# Altium footprint library WR-TBL_Spring Clamp_2.54mm.PcbLib: 12 footprints
Each footprint in its own frame and in the unit in brackets; x right, y up, seen from the top. Pads: shape width x height; smd on the part's side, far side on the other; paste and mask are expansions set on the pad; w line width, h text height; cw(c..) or ccw(c..) is an arc to the next point about the centre after c.
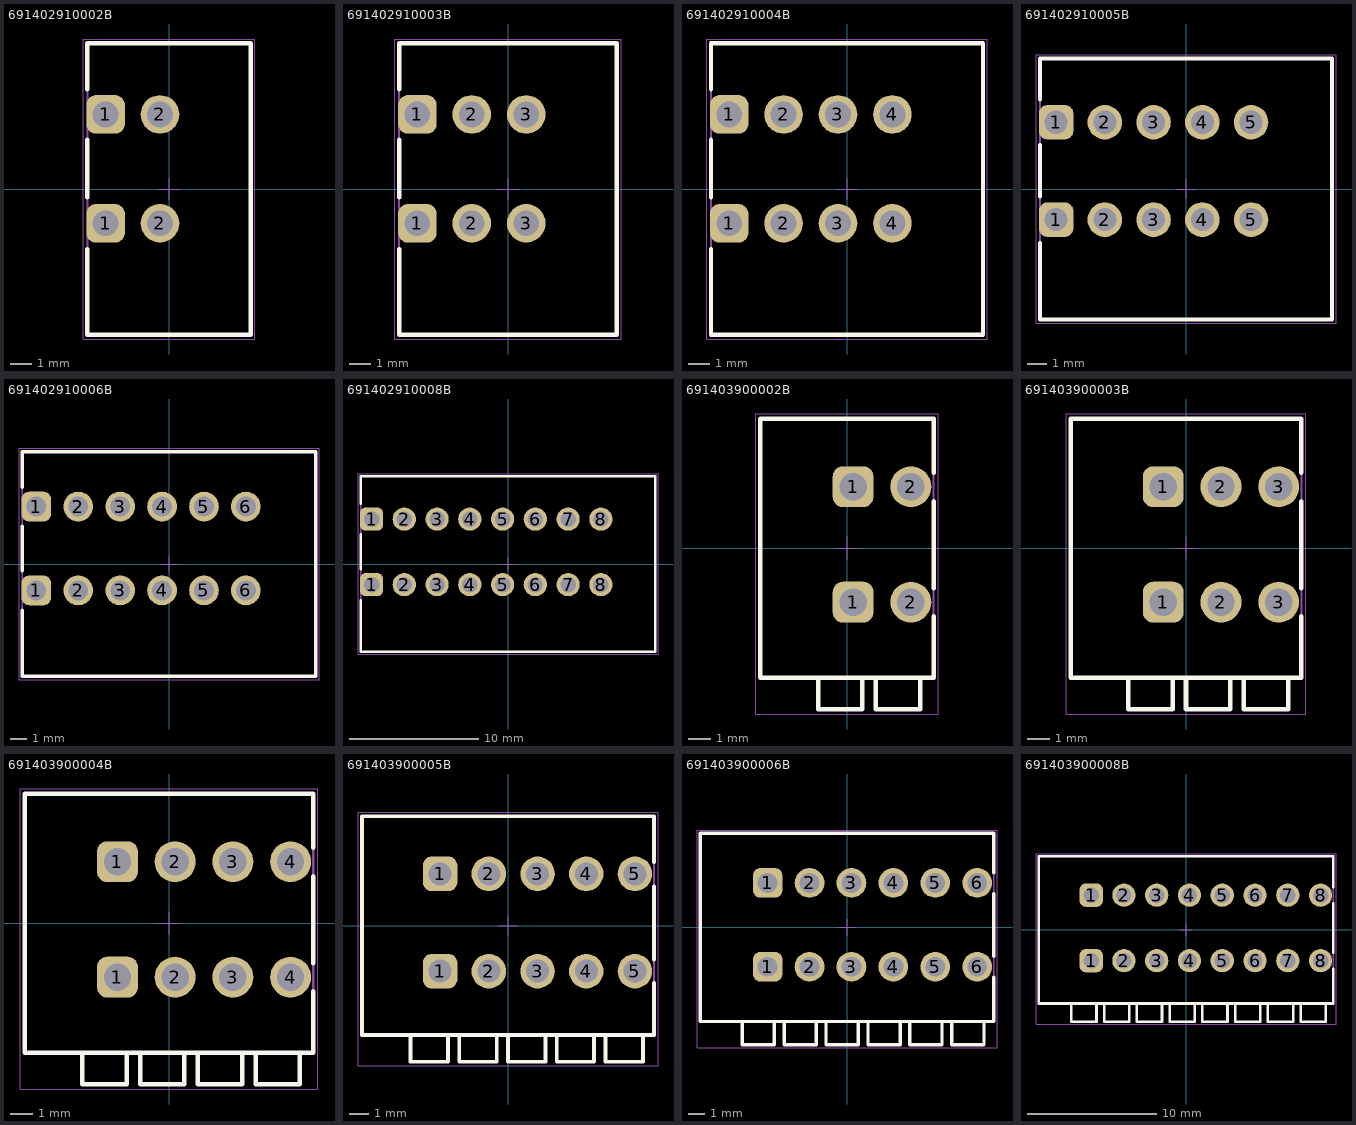
[diagram p0: the footprints below, top view; thin cyan lines are the x and y axes]

## 691402910002B [mm] "2.54 mm - Screwless Horizontal Entry - 02p"
height 12.8
pads (4):
  rrect50% 1.8x1.8 hole 1.2: 1(-2.96,-1.6) 1(-2.96,3.48)
  round 1.8 hole 1.2: 2(-0.42,-1.6) 2(-0.42,3.48)
Top Overlay:
  lines w0.2: -3.81,-2.8 -3.81,-6.8 3.81,-6.8 3.81,6.8 -3.81,6.8 -3.81,4.66 ; -3.81,-0.4 -3.81,2.3
Top Designator:
  text ".Designator" at -7.498,-0.5 h1.5
Top Component Outline:
  lines w0.1: -3.81,-6.8 -3.81,6.8 3.81,6.8 3.81,-6.8 -3.81,-6.8
Top 3D Body:
  lines w0.1: -3.81,-6.8 3.81,-6.8 3.81,6.8 -3.81,6.8 -3.81,-6.8
Top Courtyard:
  lines w0.05: -4.01,-7 4.01,-7 4.01,7 -4.01,7 -4.01,-7
Top Component Center:
  lines w0.05: -0.5,0 0.5,0 ; 0,-0.5 0,0.5
3D body "691402910002B.stp": height 12.64, standoff -3.45, extent -3.81,-6.8 3.81,6.8

## 691402910003B [mm] "2.54 mm - Screwless Horizontal Entry - 03p"
height 12.8
pads (6):
  rrect50% 1.8x1.8 hole 1.2: 1(-4.23,-1.6) 1(-4.23,3.48)
  round 1.8 hole 1.2: 2(-1.69,-1.6) 2(-1.69,3.48) 3(0.85,-1.6) 3(0.85,3.48)
Top Overlay:
  lines w0.2: -5.08,-2.8 -5.08,-6.8 5.08,-6.8 5.08,6.8 -5.08,6.8 -5.08,4.66 ; -5.08,-0.4 -5.08,2.3
Top Designator:
  text ".Designator" at -7.498,-0.5 h1.5
Top Component Outline:
  lines w0.1: -5.08,-6.8 5.08,-6.8 5.08,6.8 -5.08,6.8 -5.08,-6.8
Top 3D Body:
  lines w0.1: -5.08,-6.8 -5.08,6.8 5.08,6.8 5.08,-6.8 -5.08,-6.8
Top Courtyard:
  lines w0.05: -5.28,-7 -5.28,7 5.28,7 5.28,-7 -5.28,-7
Top Component Center:
  lines w0.05: -0.5,0 0.5,0 ; 0,-0.5 0,0.5
3D body "691402910003B.stp": height 12.64, standoff -3.45, extent -5.08,-6.8 5.08,6.8

## 691402910004B [mm] "2.54 mm - Screwless Horizontal Entry - 04p"
height 12.8
pads (8):
  rrect50% 1.8x1.8 hole 1.2: 1(-5.5,-1.6) 1(-5.5,3.48)
  round 1.8 hole 1.2: 2(-2.96,-1.6) 2(-2.96,3.48) 3(-0.42,-1.6) 3(-0.42,3.48) 4(2.12,-1.6) 4(2.12,3.48)
Top Overlay:
  lines w0.2: -6.35,-2.8 -6.35,-6.8 6.35,-6.8 6.35,6.8 -6.35,6.8 -6.35,4.66 ; -6.35,-0.4 -6.35,2.3
Top Designator:
  text ".Designator" at -7.498,-0.5 h1.5
Top Component Outline:
  lines w0.1: -6.35,-6.8 -6.35,6.8 6.35,6.8 6.35,-6.8 -6.35,-6.8
Top 3D Body:
  lines w0.1: -6.35,-6.8 6.35,-6.8 6.35,6.8 -6.35,6.8 -6.35,-6.8
Top Courtyard:
  lines w0.05: -6.55,-7 6.55,-7 6.55,7 -6.55,7 -6.55,-7
Top Component Center:
  lines w0.05: -0.5,0 0.5,0 ; 0,-0.5 0,0.5
3D body "691402910004B.stp": height 12.64, standoff -3.45, extent -6.35,-6.8 6.35,6.8

## 691402910005B [mm] "2.54 mm - Screwless Horizontal Entry - 05p"
height 12.8
pads (10):
  rrect50% 1.8x1.8 hole 1.2: 1(-6.77,-1.6) 1(-6.77,3.48)
  round 1.8 hole 1.2: 2(-4.23,-1.6) 2(-4.23,3.48) 3(-1.69,-1.6) 3(-1.69,3.48) 4(0.85,-1.6) 4(0.85,3.48) 5(3.39,-1.6) 5(3.39,3.48)
Top Overlay:
  lines w0.2: -7.62,-2.8 -7.62,-6.8 7.62,-6.8 7.62,6.8 -7.62,6.8 -7.62,4.66 ; -7.62,-0.4 -7.62,2.3
Top Designator:
  text ".Designator" at -7.498,-0.5 h1.5
Top Component Outline:
  lines w0.1: -7.62,-6.8 7.62,-6.8 7.62,6.8 -7.62,6.8 -7.62,-6.8
Top 3D Body:
  lines w0.1: -7.62,-6.8 -7.62,6.8 7.62,6.8 7.62,-6.8 -7.62,-6.8
Top Courtyard:
  lines w0.05: -7.82,-7 -7.82,7 7.82,7 7.82,-7 -7.82,-7
Top Component Center:
  lines w0.05: -0.5,0 0.5,0 ; 0,-0.5 0,0.5
3D body "691402910005B.stp": height 12.64, standoff -3.45, extent -7.62,-6.8 7.62,6.8

## 691402910006B [mm] "2.54 mm - Screwless Horizontal Entry - 06p"
height 12.8
pads (12):
  rrect50% 1.8x1.8 hole 1.2: 1(-8.04,-1.6) 1(-8.04,3.48)
  round 1.8 hole 1.2: 2(-5.5,-1.6) 2(-5.5,3.48) 3(-2.96,-1.6) 3(-2.96,3.48) 4(-0.42,-1.6) 4(-0.42,3.48) 5(2.12,-1.6) 5(2.12,3.48) 6(4.66,-1.6) 6(4.66,3.48)
Top Overlay:
  lines w0.2: -8.89,-2.8 -8.89,-6.8 8.89,-6.8 8.89,6.8 -8.89,6.8 -8.89,4.66 ; -8.89,-0.4 -8.89,2.3
Top Designator:
  text ".Designator" at -7.498,-0.5 h1.5
Top Component Outline:
  lines w0.1: -8.89,-6.8 -8.89,6.8 8.89,6.8 8.89,-6.8 -8.89,-6.8
Top 3D Body:
  lines w0.1: -8.89,-6.8 8.89,-6.8 8.89,6.8 -8.89,6.8 -8.89,-6.8
Top Courtyard:
  lines w0.05: -9.09,-7 9.09,-7 9.09,7 -9.09,7 -9.09,-7
Top Component Center:
  lines w0.05: -0.5,0 0.5,0 ; 0,-0.5 0,0.5
3D body "691402910006B.stp": height 12.64, standoff -3.45, extent -8.89,-6.8 8.89,6.8

## 691402910008B [mm] "2.54 mm - Screwless Horizontal Entry - 08p"
height 12.8
pads (16):
  rrect50% 1.8x1.8 hole 1.2: 1(-10.58,-1.6) 1(-10.58,3.48)
  round 1.8 hole 1.2: 2(-8.04,-1.6) 2(-8.04,3.48) 3(-5.5,-1.6) 3(-5.5,3.48) 4(-2.96,-1.6) 4(-2.96,3.48) 5(-0.42,-1.6) 5(-0.42,3.48) 6(2.12,-1.6) 6(2.12,3.48) 7(4.66,-1.6) 7(4.66,3.48) 8(7.2,-1.6) 8(7.2,3.48)
Top Overlay:
  lines w0.2: -11.43,-2.8 -11.43,-6.8 11.43,-6.8 11.43,6.8 -11.43,6.8 -11.43,4.66 ; -11.43,-0.4 -11.43,2.3
Top Designator:
  text ".Designator" at -7.498,-0.5 h1.5
Top Component Outline:
  lines w0.1: -11.43,-6.8 11.43,-6.8 11.43,6.8 -11.43,6.8 -11.43,-6.8
Top 3D Body:
  lines w0.1: -11.43,-6.8 -11.43,6.8 11.43,6.8 11.43,-6.8 -11.43,-6.8
Top Courtyard:
  lines w0.05: -11.63,-7 -11.63,7 11.63,7 11.63,-7 -11.63,-7
Top Component Center:
  lines w0.05: -0.5,0 0.5,0 ; 0,-0.5 0,0.5
3D body "691402910008B.stp": height 12.64, standoff -3.45, extent -11.43,-6.8 11.43,6.8

## 691403900002B [mm] "2,54mm - Spring clamp/Screwless - Vertical wire entry - 02p"
height 13.6
pads (4):
  rrect50% 1.8x1.8 hole 1.2: 1(0.27,-2.38) 1(0.27,2.7)
  round 1.8 hole 1.2: 2(2.81,-2.38) 2(2.81,2.7)
Top Overlay:
  lines w0.2: -1.27,-5.7 -1.27,-7.1 0.68,-7.1 0.68,-5.7 ; 1.27,-5.7 1.27,-7.1 3.22,-7.1 3.22,-5.7 ; 3.81,-3 3.81,-5.7 -3.81,-5.7 -3.81,5.7 3.81,5.7 3.81,3.32 ; 3.81,-1.76 3.81,2.05
Top Designator:
  text ".Designator" at -7.498,-0.5 h1.5
Top Component Outline:
  lines w0.1: -1.27,-5.7 -1.27,-7.1 0.68,-7.1 0.68,-5.7 ; 1.27,-5.7 1.27,-7.1 3.22,-7.1 3.22,-5.7 ; -3.81,-5.7 3.81,-5.7 3.81,5.7 -3.81,5.7 -3.81,-5.7
Top 3D Body:
  lines w0.1: -1.27,-5.7 -1.27,-7.1 0.68,-7.1 0.68,-5.7 ; 1.27,-5.7 1.27,-7.1 3.22,-7.1 3.22,-5.7 ; -3.81,-5.7 -3.81,5.7 3.81,5.7 3.81,-5.7 -3.81,-5.7
Top Courtyard:
  lines w0.05: -4.01,-7.3 -4.01,5.9 4.01,5.9 4.01,-7.3 -4.01,-7.3
Top Component Center:
  lines w0.05: -0.5,0 0.5,0 ; 0,-0.5 0,0.5
3D body "691403900002B (rev1).stp": height 13.65, standoff -3.45, extent -3.81,-7.1 3.81,5.7

## 691403900003B [mm] "2,54mm - Spring clamp/Screwless - Vertical wire entry - 03p"
height 13.6
pads (6):
  rrect50% 1.8x1.8 hole 1.2: 1(-1,-2.38) 1(-1,2.7)
  round 1.8 hole 1.2: 2(1.54,-2.38) 2(1.54,2.7) 3(4.08,-2.38) 3(4.08,2.7)
Top Overlay:
  lines w0.2: -2.54,-5.7 -2.54,-7.1 -0.59,-7.1 -0.59,-5.7 ; 0,-5.7 0,-7.1 1.95,-7.1 1.95,-5.7 ; 2.54,-5.7 2.54,-7.1 4.49,-7.1 4.49,-5.7 ; 5.08,-3 5.08,-5.7 -5.08,-5.7 -5.08,5.7 5.08,5.7 5.08,3.32 ; 5.08,-1.76 5.08,2.05
Top Designator:
  text ".Designator" at -7.498,-0.5 h1.5
Top Component Outline:
  lines w0.1: -2.54,-5.7 -2.54,-7.1 -0.59,-7.1 -0.59,-5.7 ; 0,-5.7 0,-7.1 1.95,-7.1 1.95,-5.7 ; 2.54,-5.7 2.54,-7.1 4.49,-7.1 4.49,-5.7 ; -5.08,-5.7 -5.08,5.7 5.08,5.7 5.08,-5.7 -5.08,-5.7
Top 3D Body:
  lines w0.1: -2.54,-5.7 -2.54,-7.1 -0.59,-7.1 -0.59,-5.7 ; 0,-5.7 0,-7.1 1.95,-7.1 1.95,-5.7 ; 2.54,-5.7 2.54,-7.1 4.49,-7.1 4.49,-5.7 ; -5.08,-5.7 5.08,-5.7 5.08,5.7 -5.08,5.7 -5.08,-5.7
Top Courtyard:
  lines w0.05: -5.28,-7.3 5.28,-7.3 5.28,5.9 -5.28,5.9 -5.28,-7.3
Top Component Center:
  lines w0.05: -0.5,0 0.5,0 ; 0,-0.5 0,0.5
3D body "691403900003B.stp": height 13.65, standoff -3.45, extent -5.08,-7.1 5.08,5.7

## 691403900004B [mm] "2,54mm - Spring clamp/Screwless - Vertical wire entry - 04p"
height 13.6
pads (8):
  rrect50% 1.8x1.8 hole 1.2: 1(-2.27,-2.38) 1(-2.27,2.7)
  round 1.8 hole 1.2: 2(0.27,-2.38) 2(0.27,2.7) 3(2.81,-2.38) 3(2.81,2.7) 4(5.35,-2.38) 4(5.35,2.7)
Top Overlay:
  lines w0.2: -3.81,-5.7 -3.81,-7.1 -1.86,-7.1 -1.86,-5.7 ; -1.27,-5.7 -1.27,-7.1 0.68,-7.1 0.68,-5.7 ; 1.27,-5.7 1.27,-7.1 3.22,-7.1 3.22,-5.7 ; 3.81,-5.7 3.81,-7.1 5.76,-7.1 5.76,-5.7 ; 6.35,-3 6.35,-5.7 -6.35,-5.7 -6.35,5.7 6.35,5.7 6.35,3.32 ; 6.35,-1.76 6.35,2.05
Top Designator:
  text ".Designator" at -7.498,-0.5 h1.5
Top Component Outline:
  lines w0.1: -3.81,-5.7 -3.81,-7.1 -1.86,-7.1 -1.86,-5.7 ; -1.27,-5.7 -1.27,-7.1 0.68,-7.1 0.68,-5.7 ; 1.27,-5.7 1.27,-7.1 3.22,-7.1 3.22,-5.7 ; 3.81,-5.7 3.81,-7.1 5.76,-7.1 5.76,-5.7 ; -6.35,-5.7 6.35,-5.7 6.35,5.7 -6.35,5.7 -6.35,-5.7
Top 3D Body:
  lines w0.1: -3.81,-5.7 -3.81,-7.1 -1.86,-7.1 -1.86,-5.7 ; -1.27,-5.7 -1.27,-7.1 0.68,-7.1 0.68,-5.7 ; 1.27,-5.7 1.27,-7.1 3.22,-7.1 3.22,-5.7 ; 3.81,-5.7 3.81,-7.1 5.76,-7.1 5.76,-5.7 ; -6.35,-5.7 -6.35,5.7 6.35,5.7 6.35,-5.7 -6.35,-5.7
Top Courtyard:
  lines w0.05: -6.55,-7.3 -6.55,5.9 6.55,5.9 6.55,-7.3 -6.55,-7.3
Top Component Center:
  lines w0.05: -0.5,0 0.5,0 ; 0,-0.5 0,0.5
3D body "691403900004B.stp": height 13.65, standoff -3.45, extent -6.35,-7.1 6.35,5.7

## 691403900005B [mm] "2,54mm - Spring clamp/Screwless - Vertical wire entry - 05p"
height 13.6
pads (10):
  rrect50% 1.8x1.8 hole 1.2: 1(-3.54,-2.38) 1(-3.54,2.7)
  round 1.8 hole 1.2: 2(-1,-2.38) 2(-1,2.7) 3(1.54,-2.38) 3(1.54,2.7) 4(4.08,-2.38) 4(4.08,2.7) 5(6.62,-2.38) 5(6.62,2.7)
Top Overlay:
  lines w0.2: -5.08,-5.7 -5.08,-7.1 -3.13,-7.1 -3.13,-5.7 ; -2.54,-5.7 -2.54,-7.1 -0.59,-7.1 -0.59,-5.7 ; 0,-5.7 0,-7.1 1.95,-7.1 1.95,-5.7 ; 2.54,-5.7 2.54,-7.1 4.49,-7.1 4.49,-5.7 ; 5.08,-5.7 5.08,-7.1 7.03,-7.1 7.03,-5.7 ; 7.62,-3 7.62,-5.7 -7.62,-5.7 -7.62,5.7 7.62,5.7 7.62,3.32 ; 7.62,-1.76 7.62,2.05
Top Designator:
  text ".Designator" at -7.498,-0.5 h1.5
Top Component Outline:
  lines w0.1: -5.08,-5.7 -5.08,-7.1 -3.13,-7.1 -3.13,-5.7 ; -2.54,-5.7 -2.54,-7.1 -0.59,-7.1 -0.59,-5.7 ; 0,-5.7 0,-7.1 1.95,-7.1 1.95,-5.7 ; 2.54,-5.7 2.54,-7.1 4.49,-7.1 4.49,-5.7 ; 5.08,-5.7 5.08,-7.1 7.03,-7.1 7.03,-5.7 ; -7.62,-5.7 -7.62,5.7 7.62,5.7 7.62,-5.7 -7.62,-5.7
Top 3D Body:
  lines w0.1: -5.08,-5.7 -5.08,-7.1 -3.13,-7.1 -3.13,-5.7 ; -2.54,-5.7 -2.54,-7.1 -0.59,-7.1 -0.59,-5.7 ; 0,-5.7 0,-7.1 1.95,-7.1 1.95,-5.7 ; 2.54,-5.7 2.54,-7.1 4.49,-7.1 4.49,-5.7 ; 5.08,-5.7 5.08,-7.1 7.03,-7.1 7.03,-5.7 ; -7.62,-5.7 7.62,-5.7 7.62,5.7 -7.62,5.7 -7.62,-5.7
Top Courtyard:
  lines w0.05: -7.82,-7.3 7.82,-7.3 7.82,5.9 -7.82,5.9 -7.82,-7.3
Top Component Center:
  lines w0.05: -0.5,0 0.5,0 ; 0,-0.5 0,0.5
3D body "691403900005B.stp": height 13.65, standoff -3.45, extent -7.62,-7.1 7.62,5.7

## 691403900006B [mm] "2,54mm - Spring clamp/Screwless - Vertical wire entry - 06p"
height 13.6
pads (12):
  rrect50% 1.8x1.8 hole 1.2: 1(-4.81,-2.38) 1(-4.81,2.7)
  round 1.8 hole 1.2: 2(-2.27,-2.38) 2(-2.27,2.7) 3(0.27,-2.38) 3(0.27,2.7) 4(2.81,-2.38) 4(2.81,2.7) 5(5.35,-2.38) 5(5.35,2.7) 6(7.89,-2.38) 6(7.89,2.7)
Top Overlay:
  lines w0.2: -6.35,-5.7 -6.35,-7.1 -4.4,-7.1 -4.4,-5.7 ; -3.81,-5.7 -3.81,-7.1 -1.86,-7.1 -1.86,-5.7 ; -1.27,-5.7 -1.27,-7.1 0.68,-7.1 0.68,-5.7 ; 1.27,-5.7 1.27,-7.1 3.22,-7.1 3.22,-5.7 ; 3.81,-5.7 3.81,-7.1 5.76,-7.1 5.76,-5.7 ; 6.35,-5.7 6.35,-7.1 8.3,-7.1 8.3,-5.7 ; 8.89,-3 8.89,-5.7 -8.89,-5.7 -8.89,5.7 8.89,5.7 8.89,3.32 ; 8.89,-1.76 8.89,2.05
Top Designator:
  text ".Designator" at -7.498,-0.5 h1.5
Top Component Outline:
  lines w0.1: -6.35,-5.7 -6.35,-7.1 -4.4,-7.1 -4.4,-5.7 ; -3.81,-5.7 -3.81,-7.1 -1.86,-7.1 -1.86,-5.7 ; -1.27,-5.7 -1.27,-7.1 0.68,-7.1 0.68,-5.7 ; 1.27,-5.7 1.27,-7.1 3.22,-7.1 3.22,-5.7 ; 3.81,-5.7 3.81,-7.1 5.76,-7.1 5.76,-5.7 ; 6.35,-5.7 6.35,-7.1 8.3,-7.1 8.3,-5.7 ; -8.89,-5.7 -8.89,5.7 8.89,5.7 8.89,-5.7 -8.89,-5.7
Top 3D Body:
  lines w0.1: -6.35,-5.7 -6.35,-7.1 -4.4,-7.1 -4.4,-5.7 ; -3.81,-5.7 -3.81,-7.1 -1.86,-7.1 -1.86,-5.7 ; -1.27,-5.7 -1.27,-7.1 0.68,-7.1 0.68,-5.7 ; 1.27,-5.7 1.27,-7.1 3.22,-7.1 3.22,-5.7 ; 3.81,-5.7 3.81,-7.1 5.76,-7.1 5.76,-5.7 ; 6.35,-5.7 6.35,-7.1 8.3,-7.1 8.3,-5.7 ; -8.89,-5.7 8.89,-5.7 8.89,5.7 -8.89,5.7 -8.89,-5.7
Top Courtyard:
  lines w0.05: -9.09,-7.3 9.09,-7.3 9.09,5.9 -9.09,5.9 -9.09,-7.3
Top Component Center:
  lines w0.05: -0.5,0 0.5,0 ; 0,-0.5 0,0.5
3D body "691403900006B.stp": height 13.65, standoff -3.45, extent -8.89,-7.1 8.89,5.7

## 691403900008B [mm] "2,54mm - Spring clamp/Screwless - Vertical wire entry - 08p"
height 13.6
pads (16):
  rrect50% 1.8x1.8 hole 1.2: 1(-7.35,-2.38) 1(-7.35,2.7)
  round 1.8 hole 1.2: 2(-4.81,-2.38) 2(-4.81,2.7) 3(-2.27,-2.38) 3(-2.27,2.7) 4(0.27,-2.38) 4(0.27,2.7) 5(2.81,-2.38) 5(2.81,2.7) 6(5.35,-2.38) 6(5.35,2.7) 7(7.89,-2.38) 7(7.89,2.7) 8(10.43,-2.38) 8(10.43,2.7)
Top Overlay:
  lines w0.2: -8.89,-5.7 -8.89,-7.1 -6.94,-7.1 -6.94,-5.7 ; -6.35,-5.7 -6.35,-7.1 -4.4,-7.1 -4.4,-5.7 ; -3.81,-5.7 -3.81,-7.1 -1.86,-7.1 -1.86,-5.7 ; -1.27,-5.7 -1.27,-7.1 0.68,-7.1 0.68,-5.7 ; 1.27,-5.7 1.27,-7.1 3.22,-7.1 3.22,-5.7 ; 3.81,-5.7 3.81,-7.1 5.76,-7.1 5.76,-5.7 ; 6.35,-5.7 6.35,-7.1 8.3,-7.1 8.3,-5.7 ; 8.89,-5.7 8.89,-7.1 10.84,-7.1 10.84,-5.7 ; 11.43,-3 11.43,-5.7 -11.43,-5.7 -11.43,5.7 11.43,5.7 11.43,3.32 ; 11.43,-1.76 11.43,2.05
Top Designator:
  text ".Designator" at -7.498,-0.5 h1.5
Top Component Outline:
  lines w0.1: -8.89,-5.7 -8.89,-7.1 -6.94,-7.1 -6.94,-5.7 ; -6.35,-5.7 -6.35,-7.1 -4.4,-7.1 -4.4,-5.7 ; -3.81,-5.7 -3.81,-7.1 -1.86,-7.1 -1.86,-5.7 ; -1.27,-5.7 -1.27,-7.1 0.68,-7.1 0.68,-5.7 ; 1.27,-5.7 1.27,-7.1 3.22,-7.1 3.22,-5.7 ; 3.81,-5.7 3.81,-7.1 5.76,-7.1 5.76,-5.7 ; 6.35,-5.7 6.35,-7.1 8.3,-7.1 8.3,-5.7 ; 8.89,-5.7 8.89,-7.1 10.84,-7.1 10.84,-5.7 ; -11.43,-5.7 -11.43,5.7 11.43,5.7 11.43,-5.7 -11.43,-5.7
Top 3D Body:
  lines w0.1: -8.89,-5.7 -8.89,-7.1 -6.94,-7.1 -6.94,-5.7 ; -6.35,-5.7 -6.35,-7.1 -4.4,-7.1 -4.4,-5.7 ; -3.81,-5.7 -3.81,-7.1 -1.86,-7.1 -1.86,-5.7 ; -1.27,-5.7 -1.27,-7.1 0.68,-7.1 0.68,-5.7 ; 1.27,-5.7 1.27,-7.1 3.22,-7.1 3.22,-5.7 ; 3.81,-5.7 3.81,-7.1 5.76,-7.1 5.76,-5.7 ; 6.35,-5.7 6.35,-7.1 8.3,-7.1 8.3,-5.7 ; 8.89,-5.7 8.89,-7.1 10.84,-7.1 10.84,-5.7 ; -11.43,-5.7 11.43,-5.7 11.43,5.7 -11.43,5.7 -11.43,-5.7
Top Courtyard:
  lines w0.05: -11.63,-7.3 11.63,-7.3 11.63,5.9 -11.63,5.9 -11.63,-7.3
Top Component Center:
  lines w0.05: -0.5,0 0.5,0 ; 0,-0.5 0,0.5
3D body "691403900008B.stp": height 13.65, standoff -3.45, extent -11.43,-7.1 11.43,5.7